# Altium schematic symbol library STM32103C8T6.SCHLIB: 24 symbols
Pins are listed as number, name and electrical type; pins without a type are passive.

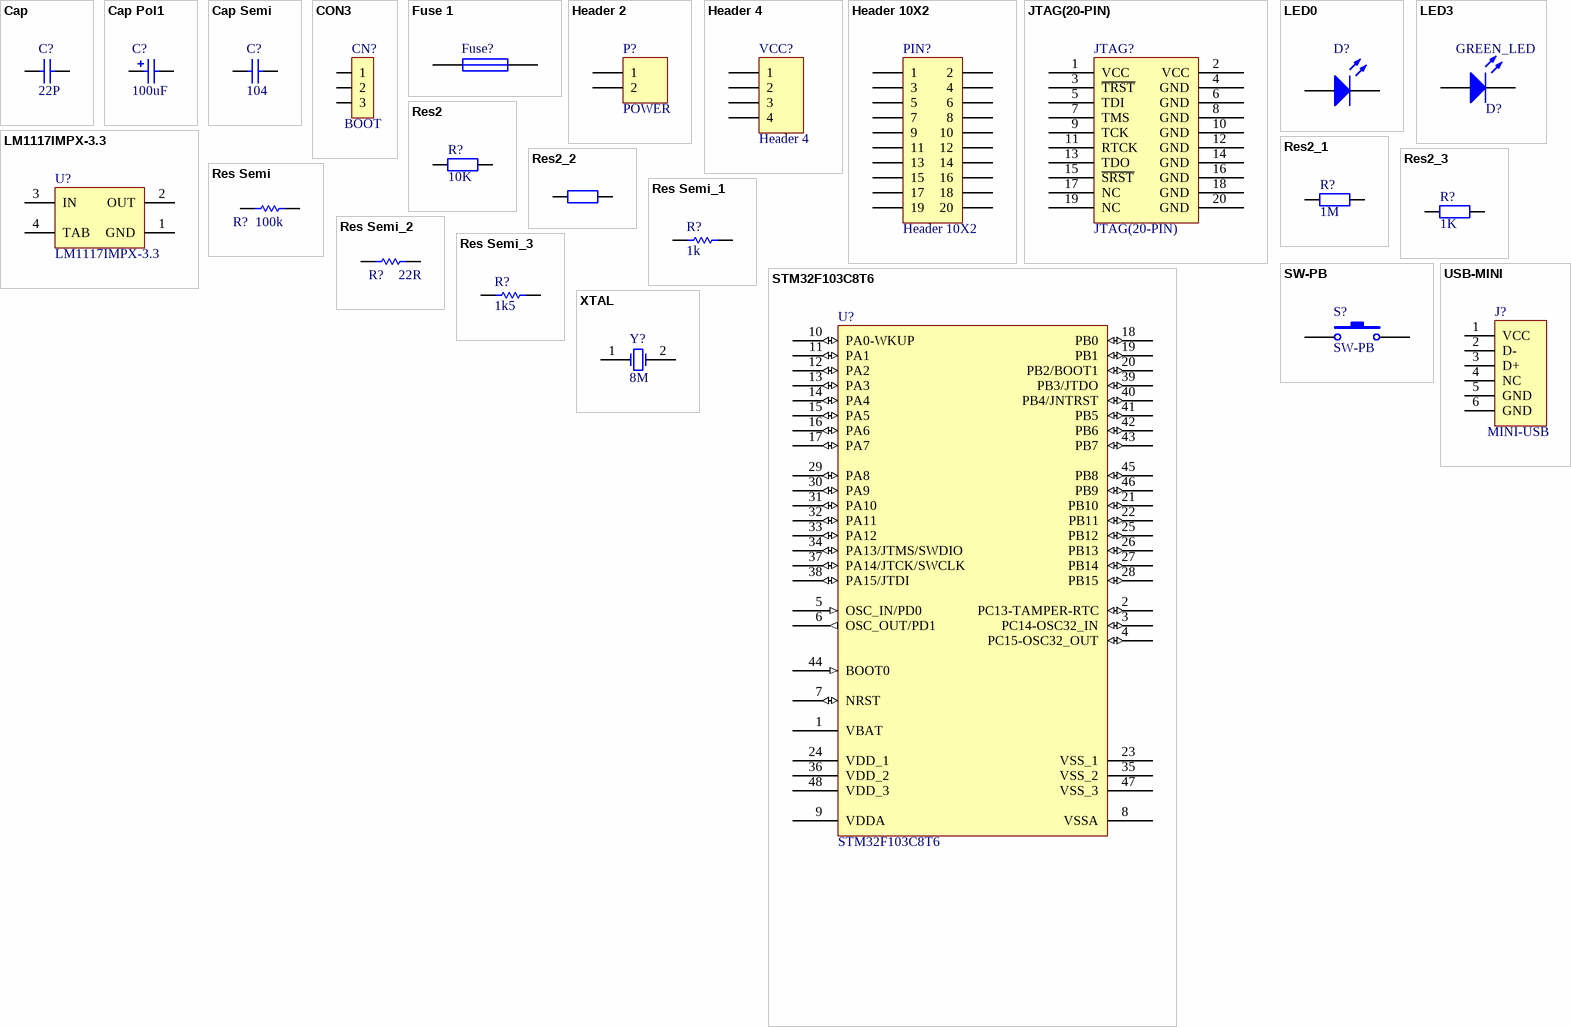
[diagram p0: symbols Cap to XTAL]

## Cap
designator C?, comment 22P
Capacitor; Value: 100pF; Published: 8-Jun-2000; Revision: July-2002: Re-released for DXP Platform.; Publisher: Altium Limited
footprint 0805
simulation model CAP (Capacitor)
signal-integrity model Cap
footprint CAPR5.08-7.8X3.2
footprint CAPR2.54-5.1X3.2
pins: 1, 2

## Cap Pol1
designator C?  value 100uF  (hidden comment: Cap Pol1)
Polarized Capacitor (Radial); Published: 8-Jun-2000; LatestRevisionDate: 17-Jul-2002; LatestRevisionNote: Re-released for DXP Platform.; PackageReference: RB7.6-15; Publisher: Altium Limited
simulation model CAP (Capacitor)
signal-integrity model Cap Pol
footprint 1206
pins: 1, 2
1 alternate drawing of the same symbol

## Cap Semi
designator C?  value 104  (hidden comment: Cap Semi)
Capacitor (Semiconductor SIM Model); Published: 8-Jun-2000; LatestRevisionDate: 17-Jul-2002; LatestRevisionNote: Re-released for DXP Platform.; PackageReference: C1206; Publisher: Altium Limited
simulation model CAP (Semiconductor Capacitor)
signal-integrity model Cap Semi
footprint 0603
pins: 1, 2

## CON3
designator CN?, comment BOOT
footprint KEY_22D00
pins: 1, 2, 3

## Fuse 1
designator Fuse?  (value not drawn)
Fuse; Published: 8-Jun-2000; LatestRevisionDate: 17-Jul-2002; LatestRevisionNote: Re-released for DXP Platform.; PackageReference: PIN-W2/E2.8; Publisher: Altium Limited; PackageDescription: Thru-Hole; 2 Leads
simulation model FUSE (Spice Subcircuit)
footprint 0805
pins: 1, 2

## Header 2
designator P?, comment POWER
Header, 2-Pin; LatestRevisionDate: 17-Jul-2002; LatestRevisionNote: Re-released for DXP Platform.; Publisher: Altium Limited
footprint HDR1X2 (Connector; Header; 2 Position)
signal-integrity model Connector
footprint XH2.54-2
pins: 1, 2

## Header 4
designator VCC?
Header, 4-Pin; LatestRevisionDate: 17-Jul-2002; LatestRevisionNote: Re-released for DXP Platform.; Publisher: Altium Limited
footprint HDR1X4 (Connector; Header; 4 Position)
signal-integrity model Connector
pins: 1, 2, 3, 4

## Header 10X2
designator PIN?
Header, 10-Pin, Dual row; LatestRevisionDate: 17-Jul-2002; LatestRevisionNote: Re-released for DXP Platform.; Publisher: Altium Limited
footprint HDR2X10 (Connector; Header; 10x2 Position)
signal-integrity model Connector
pins: 1, 2, 3, 4, 5, 6, 7, 8, 9, 10, 11, 12, 13, 14, 15, 16, 17, 18, 19, 20

## JTAG(20-PIN)
designator JTAG?
footprint JP20_DOMNLOAD
pins: 1 VCC, 2 VCC, 3 ~{TRST}, 4 GND, 5 TDI, 6 GND, 7 TMS, 8 GND, 9 TCK, 10 GND, 11 RTCK, 12 GND, 13 TDO, 14 GND, 15 ~{SRST}, 16 GND, 17 NC, 18 GND, 19 NC, 20 GND

## LED0
designator D?  (value not drawn)
Typical INFRARED GaAs LED; Published: 8-Jun-2000; LatestRevisionDate: 08-Jul-2005; LatestRevisionNote: Mech Layer 1 removed.; PackageReference: LED-0; Publisher: Altium Limited; PackageDescription: LED; 2 Leads
simulation model LED0 (Diode)
footprint 0805
pins: 1 A, 2 K

## LED3
designator D?, comment GREEN_LED
Typical BLUE SiC LED; Published: 8-Jun-2000; LatestRevisionDate: 17-Dec-2003; LatestRevisionNote: PCB Footprint replaced.; DatasheetDocument: 16-Apr-2002; PackageDocument: 16-Apr-2002; PackageReference: 3.5X2.8X1.9; Publisher: Altium Limited
footprint 3.5X2.8X1.9 (SM LED; 2 C-Bend Leads; Body 3.5 x 2.8 x 1.9 mm, inc leads (LxWxH typ))
simulation model LED3 (Diode)
signal-integrity model LED
footprint LED_0805
pins: 1 A, 2 K

## LM1117IMPX-3.3
designator U?
800mA Low-Dropout Linear Regulator, 4-pin SOT-223; Manufacturer: National Semiconductor; PackageTopMarking: XYTT*N05B; PowerWise: N; CompType: LDO IC; Published: 1-Mar-2010; DatasheetVersion: Apr-2006; PackageVersion: revB, Apr-2003; PackageReference: MP04A; Publisher: Altium Limited; PackageDescription: Molded SOT-223, 6.50 x 3.56 x 1.6mm Body, 4 Lead, 2.3mm Pitch; PartNumber: LM1117IMPX-3.3; RoHS: N; PinCount: 4; Code_JEDEC: TO-261-AA; Code_IPC: SOT223-4; ComponentLink1Description: LM1117 Datasheet; ComponentLink1URL: http://www.national.com/ds/LM/LM1117.pdf; ComponentLink2Description: LM1117 Web Page; ComponentLink2URL: http://www.national.com/pf/LM/LM1117.html; ComponentLink3Description: MP04A Package Page; ComponentLink3URL: http://www.national.com/packaging/folders/mp04a.html
footprint MP04A_N (SOT223, 4-Leads, Body 6.5x3.5mm, Pitch 2.3mm, Lead Span 7mm, IPC Medium Density)
footprint MP04A_L (SOT223, 4-Leads, Body 6.5x3.5mm, Pitch 2.3mm, Lead Span 7mm, IPC High Density)
footprint MP04A_M (SOT223, 4-Leads, Body 6.5x3.5mm, Pitch 2.3mm, Lead Span 7mm, IPC Low Density)
pins: 1 GND (power), 2 OUT (power), 3 IN (power), 4 TAB (power)

## Res2
designator R?  value 10K  (hidden comment: Res2)
Resistor; Published: 8-Jun-2000; LatestRevisionDate: 17-Jul-2002; LatestRevisionNote: Re-released for DXP Platform.; PackageReference: AXIAL-0.4; Publisher: Altium Limited; PackageDescription: Axial Device, Thru-Hole; 2 Leads; 0.4 in Pin Spacing
simulation model RESISTOR (Resistor)
signal-integrity model Res
footprint 0805
pins: 1, 2

## Res2_1
designator R?, comment 1M
Resistor; Value: 1K; Published: 8-Jun-2000; Revision: July-2002: Re-released for DXP Platform.; Publisher: Altium Limited
footprint 0805
simulation model RESISTOR (Resistor)
signal-integrity model Res
pins: 1, 2
1 alternate drawing of the same symbol

## Res2_2
designator R?, comment 10K  (value not drawn)
Resistor; Value: 1K; Published: 8-Jun-2000; Revision: July-2002: Re-released for DXP Platform.; Publisher: Altium Limited
footprint 0805
simulation model RESISTOR (Resistor)
signal-integrity model Res
pins: 1, 2
1 alternate drawing of the same symbol

## Res2_3
designator R?, comment 1K
Resistor; Published: 8-Jun-2000; Revision: July-2002: Re-released for DXP Platform.; Publisher: Altium Limited; Value: 1K
footprint 0805
simulation model RESISTOR (Resistor)
signal-integrity model Res
pins: 1, 2
1 alternate drawing of the same symbol

## Res Semi
designator R?  value 100k  (hidden comment: Res Semi)
Semiconductor Resistor; Published: 8-Jun-2000; LatestRevisionDate: 17-Jul-2002; LatestRevisionNote: Re-released for DXP Platform.; PackageReference: AXIAL-0.5; Publisher: Altium Limited
footprint AXIAL-0.5 (Semiconductor Resistor; 2 Leads)
footprint 1005[0402] (Chip Resistor; Body 1.1 x 0.5 mm (LxW typ))
footprint 1608[0603] (Chip Resistor; Body 1.6 x 0.8 mm (LxW typ))
footprint 0805
footprint 3216[1206] (Chip Resistor; Body 3.2 x 1.6 mm (LxW typ))
simulation model RES (Semiconductor Resistor)
signal-integrity model Res Semi
pins: 1, 2

## Res Semi_1
designator R?, comment value 1k  (hidden comment: Res Semi)
Semiconductor Resistor; Published: 8-Jun-2000; LatestRevisionDate: 17-Jul-2002; LatestRevisionNote: Re-released for DXP Platform.; PackageReference: AXIAL-0.5; Publisher: Altium Limited
footprint AXIAL-0.5 (Semiconductor Resistor; 2 Leads)
footprint 1005[0402] (Chip Resistor; Body 1.1 x 0.5 mm (LxW typ))
footprint 1608[0603] (Chip Resistor; Body 1.6 x 0.8 mm (LxW typ))
footprint 0805
footprint 3216[1206] (Chip Resistor; Body 3.2 x 1.6 mm (LxW typ))
simulation model RES (Semiconductor Resistor)
signal-integrity model Res Semi
pins: 1, 2

## Res Semi_2
designator R?, comment value 22R  (hidden comment: Res Semi)
Semiconductor Resistor; Published: 8-Jun-2000; LatestRevisionDate: 17-Jul-2002; LatestRevisionNote: Re-released for DXP Platform.; PackageReference: AXIAL-0.5; Publisher: Altium Limited
footprint AXIAL-0.5 (Semiconductor Resistor; 2 Leads)
footprint 1005[0402] (Chip Resistor; Body 1.1 x 0.5 mm (LxW typ))
footprint 1608[0603] (Chip Resistor; Body 1.6 x 0.8 mm (LxW typ))
footprint 0805
footprint 3216[1206] (Chip Resistor; Body 3.2 x 1.6 mm (LxW typ))
simulation model RES (Semiconductor Resistor)
signal-integrity model Res Semi
pins: 1, 2

## Res Semi_3
designator R?, comment value 1k5  (hidden comment: Res Semi)
Semiconductor Resistor; Published: 8-Jun-2000; LatestRevisionDate: 17-Jul-2002; LatestRevisionNote: Re-released for DXP Platform.; PackageReference: AXIAL-0.5; Publisher: Altium Limited
footprint AXIAL-0.5 (Semiconductor Resistor; 2 Leads)
footprint 1005[0402] (Chip Resistor; Body 1.1 x 0.5 mm (LxW typ))
footprint 0805
footprint 2012[0805] (Chip Resistor; Body 2.0 x 1.3 mm (LxW typ))
footprint 3216[1206] (Chip Resistor; Body 3.2 x 1.6 mm (LxW typ))
simulation model RES (Semiconductor Resistor)
signal-integrity model Res Semi
pins: 1, 2

## STM32F103C8T6
designator U?
STM32 ARM-based 32-bit MCU with 64 Kbytes Flash, 48-pin LQFP, Industrial Temperature
footprint LQFP48_N
footprint LQFP48_L
footprint LQFP48_M
pins: 1 VBAT (power), 2 PC13-TAMPER-RTC (io), 3 PC14-OSC32_IN (io), 4 PC15-OSC32_OUT (io), 5 OSC_IN/PD0 (in), 6 OSC_OUT/PD1 (out), 7 NRST (io), 8 VSSA (power), 9 VDDA (power), 10 PA0-WKUP (io), 11 PA1 (io), 12 PA2 (io), 13 PA3 (io), 14 PA4 (io), 15 PA5 (io), 16 PA6 (io), 17 PA7 (io), 18 PB0 (io), 19 PB1 (io), 20 PB2/BOOT1 (io), 21 PB10 (io), 22 PB11 (io), 23 VSS_1 (power), 24 VDD_1 (power), 25 PB12 (io), 26 PB13 (io), 27 PB14 (io), 28 PB15 (io), 29 PA8 (io), 30 PA9 (io), 31 PA10 (io), 32 PA11 (io), 33 PA12 (io), 34 PA13/JTMS/SWDIO (io), 35 VSS_2 (power), 36 VDD_2 (power), 37 PA14/JTCK/SWCLK (io), 38 PA15/JTDI (io), 39 PB3/JTDO (io), 40 PB4/JNTRST (io), 41 PB5 (io), 42 PB6 (io), 43 PB7 (io), 44 BOOT0 (in), 45 PB8 (io), 46 PB9 (io), 47 VSS_3 (power), 48 VDD_3 (power)
2 alternate drawings of the same symbol

## SW-PB
designator S?
Switch; Published: 24-Mar-1999; LatestRevisionDate: 17-Jul-2002; LatestRevisionNote: Re-released for DXP Platform.; PackageReference: SPST-2; Publisher: Altium Limited; PackageDescription: Switch; 2 Leads
footprint ×ØÉ«Ğ¡°´¼ü¿ª¹Ø
pins: 1, 2

## USB-MINI
designator J?, comment MINI-USB
footprint MINI_USB
pins: 1 VCC, 2 D-, 3 D+, 4 NC, 5 GND, 6 GND

## XTAL
designator Y?, comment 8M
Crystal Oscillator; Published: 8-Jun-2000; Revision: July-2002: Re-released for DXP Platform.; Publisher: Altium Limited
footprint XTAL
simulation model XTAL (Spice Subcircuit)
pins: 1 OSC1, 2 OSC2